# EAGLE library part SN74LVC2G14 (library greg-IC)
Dual Schmitt-Trigger Inverter Texas Instruments SN74LVC2G14 Supports 1.65V - 5.5V operation Inputs accept voltages to 5.5V Low power consumption — µA max SN74LVC2G14 Datasheet <http://www.ti.com/lit/ds/symlink/sn74lvc2g14.pdf>
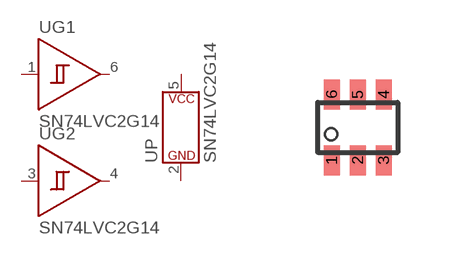
[diagram p0: symbol with the pads of SC70-6; footprint SC70-6]

Designator prefix -; gates P=POWER_CONSORT G1=GATE_INVERTER_SCHMITT_TRIGGER G2=GATE_INVERTER_SCHMITT_TRIGGER

## SN74LVC2G14DCK  [SC70-6]
1  G1:A
2  P:P$V-
3  G2:A
4  G2:Y
5  P:P$V+
6  G1:Y

## Footprint SC70-6 (pad centres in mm)
smd 0.4 x 0.75: 1 -0.65,-0.825; 2 0,-0.825; 3 0.65,-0.825; 4 0.65,0.825; 5 0,0.825; 6 -0.65,0.825